# Altium schematic symbol library SN74AVC16244DGGR.SchLib: 2 symbols
Pins are listed as number, name and electrical type; pins without a type are passive.

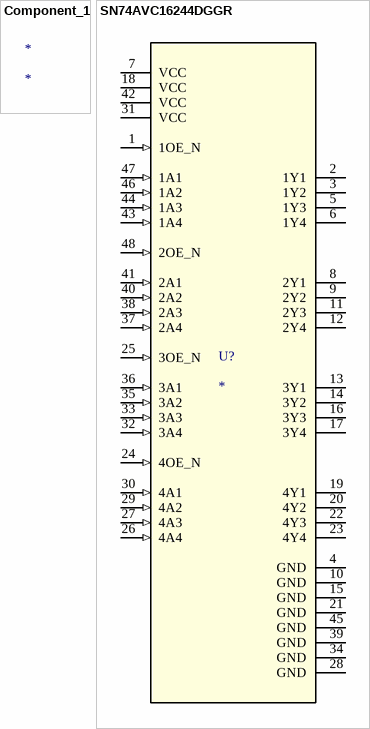
[diagram p0: symbols Component_1 to SN74AVC16244DGGR]

## Component_1
designator *

## SN74AVC16244DGGR
designator U?
No Description Available; Mfr_Name: Texas Instruments; PartNumber: SN74AVC16244DGGR; CompType: IC; TYPE: TYPE; RefDes: RefDes; SymbolVerison: 2017-09-10; PackageReference: DGG0048A; MountType: SMT; RoHS: Y; Manufacturer: Texas Instruments
footprint DGG0048A
pins: 1 1OE_N (in), 2 1Y1 (hiz), 3 1Y2 (hiz), 4 GND (power), 5 1Y3 (hiz), 6 1Y4 (hiz), 7 VCC (power), 8 2Y1 (hiz), 9 2Y2 (hiz), 10 GND (power), 11 2Y3 (hiz), 12 2Y4 (hiz), 13 3Y1 (hiz), 14 3Y2 (hiz), 15 GND (power), 16 3Y3 (hiz), 17 3Y4 (hiz), 18 VCC (power), 19 4Y1 (hiz), 20 4Y2 (hiz), 21 GND (power), 22 4Y3 (hiz), 23 4Y4 (hiz), 24 4OE_N (in), 25 3OE_N (in), 26 4A4 (in), 27 4A3 (in), 28 GND (power), 29 4A2 (in), 30 4A1 (in), 31 VCC (power), 32 3A4 (in), 33 3A3 (in), 34 GND (power), 35 3A2 (in), 36 3A1 (in), 37 2A4 (in), 38 2A3 (in), 39 GND (power), 40 2A2 (in), 41 2A1 (in), 42 VCC (power), 43 1A4 (in), 44 1A3 (in), 45 GND (power), 46 1A2 (in), 47 1A1 (in), 48 2OE_N (in)